# Altium schematic symbol library Lab3.SchLib: 12 symbols
Pins are listed as number, name and electrical type; pins without a type are passive.

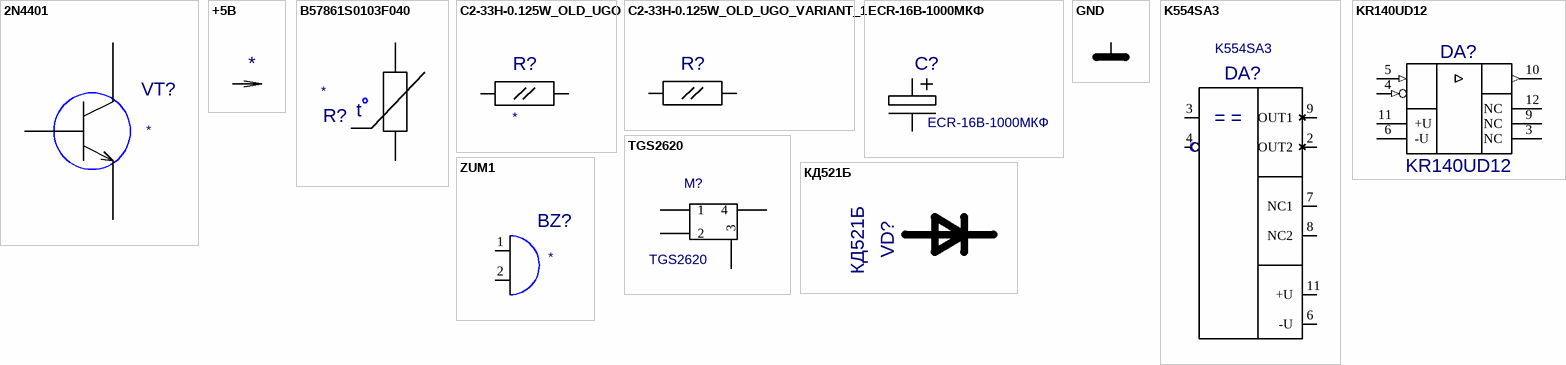
[diagram p0: symbols 2N4401 to КД521Б]

## 2N4401
designator VT?  (value not drawn)
Value: *
footprint TO-92-1
pins: 1 E, 2 B, 3 K

## +5B
designator PWR?  (value not drawn)
Value: *
pins: 1 +5B (power)

## B57861S0103F040
designator R?  (value not drawn)
Value: *
footprint B57861
pins: 1, 2
text: t

## C2-33H-0.125W_OLD_UGO
designator R?  (value not drawn)
Value: *
footprint C2-33H-0.125W
pins: 1, 2

## C2-33H-0.125W_OLD_UGO_VARIANT_1
designator R?, comment C2-33H-0.125W_OLD_UGO  (value not drawn)
C2-33H-0.125W_OLD_UGO_VARIANT_1; Value: *
footprint C2-33H-0.125W
pins: 1, 2

## ECR-16В-1000МКФ
designator C?
Value: *
footprint ECR-16В-1000МКФ
pins: 1, 2

## GND
designator PWR?  (value not drawn)
Value: *
pins: 1 GND (power)

## K554SA3
designator DA?
Value: *
footprint DIP14
pins: 1 hidden, 2 OUT2, 3 A0, 4 A1, 5 hidden, 6 -U, 7 NC1, 8 NC2, 9 OUT1, 10 hidden, 11 +U, 12 hidden, 13 hidden, 14 hidden

## KR140UD12
designator DA?
Value: *
footprint 201.14-1
pins: 1 hidden, 2 hidden, 3 NC, 4 -I (in), 5 +I (in), 6 -U (power), 7 hidden, 8 hidden, 9 NC, 10 Q (out), 11 +U (power), 12 NC, 13 hidden, 14 hidden

## TGS2620
designator M?
Value: *
footprint GAS
pins: 1, 2, 3, 4

## ZUM1
designator BZ?  (value not drawn)
Value: *
footprint ZUM1
pins: 1, 2

## КД521Б
designator VD?
Value: *
footprint КД521(522)
pins: 1 A, 2 K